# Altium schematic symbol library WE-TI.SchLib: 140 symbols (part 3 of 3)
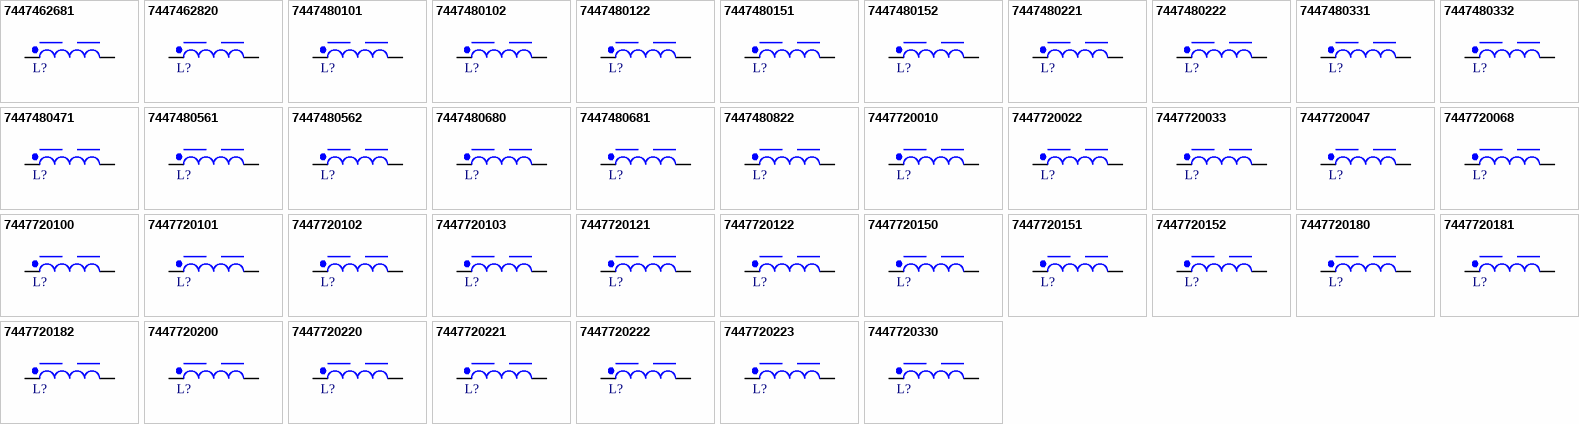
[diagram p5: symbols 7447462681 to 7447720330]

## 7447720221
designator L?, comment 220uH, 1A  (value not drawn)
WE-TI Radial Leaded Wire Wound Inductor, size 8095, 220uH, 1A, 0.45Ohm; Manufacturer Part Number: 7447720221; Manufacturer: Wurth Elektronik; Case/Size Code: 8095; Self Resonant Frequency: 3.8MHz; Category: Power Inductors; Match Code: WE-TI; ComponentLink1Description: Website Link; ComponentLink1URL: https://www.we-online.com/redexpert/article/7447720221?ad; ComponentLink2Description: Datasheet Link; ComponentLink2URL: https://www.we-online.com/redexpert/spec/7447720221?ad; Mount: Through Hole; Operating Temperature Max: 125°C; Operating Temperature Min: -40°C; Packaging: Tray; Height: 9.5mm; Diameter: 7.8mm; DC Resistance Max: 0.45Ohm; Inductance: 220uH; Rated Current: 1A; Saturation Current @ 10%: 1A
footprint WE-TI_8095
simulation model 8095_7447720221_220u
pins: 1, 2

## 7447720222
designator L?, comment 2200uH, 0.29A  (value not drawn)
WE-TI Radial Leaded Wire Wound Inductor, size 8095, 2200uH, 0.29A, 4.73Ohm; Manufacturer Part Number: 7447720222; Manufacturer: Wurth Elektronik; Case/Size Code: 8095; Saturation Current @ 10%: 0.35A; Self Resonant Frequency: 1.1MHz; Category: Power Inductors; Match Code: WE-TI; ComponentLink1Description: Website Link; ComponentLink1URL: https://www.we-online.com/redexpert/article/7447720222?ad; ComponentLink2Description: Datasheet Link; ComponentLink2URL: https://www.we-online.com/redexpert/spec/7447720222?ad; Mount: Through Hole; Operating Temperature Max: 125°C; Operating Temperature Min: -40°C; Packaging: Tray; Height: 9.5mm; Diameter: 7.8mm; DC Resistance Max: 4.73Ohm; Inductance: 2200uH; Rated Current: 0.29A
footprint WE-TI_8095
simulation model 8095_7447720222_2200u
pins: 1, 2

## 7447720223
designator L?, comment 22000uH, 0.09A  (value not drawn)
WE-TI Radial Leaded Wire Wound Inductor, size 8095, 22000uH, 0.09A, 55Ohm; Manufacturer Part Number: 7447720223; Manufacturer: Wurth Elektronik; Case/Size Code: 8095; Saturation Current @ 10%: 0.11A; Self Resonant Frequency: 0.38MHz; Category: Power Inductors; Match Code: WE-TI; ComponentLink1Description: Website Link; ComponentLink1URL: https://www.we-online.com/redexpert/article/7447720223?ad; ComponentLink2Description: Datasheet Link; ComponentLink2URL: https://www.we-online.com/redexpert/spec/7447720223?ad; Mount: Through Hole; Operating Temperature Max: 125°C; Operating Temperature Min: -40°C; Packaging: Tray; Height: 9.5mm; Diameter: 7.8mm; DC Resistance Max: 55Ohm; Inductance: 22000uH; Rated Current: 0.09A
footprint WE-TI_8095
simulation model 8095_7447720223_22000u
pins: 1, 2

## 7447720330
designator L?, comment 33uH, 2.5A  (value not drawn)
WE-TI Radial Leaded Wire Wound Inductor, size 8095, 33uH, 2.5A, 0.066Ohm; Manufacturer Part Number: 7447720330; Manufacturer: Wurth Elektronik; Case/Size Code: 8095; Saturation Current @ 10%: 2.7A; Self Resonant Frequency: 11MHz; Category: Power Inductors; Match Code: WE-TI; ComponentLink1Description: Website Link; ComponentLink1URL: https://www.we-online.com/redexpert/article/7447720330?ad; ComponentLink2Description: Datasheet Link; ComponentLink2URL: https://www.we-online.com/redexpert/spec/7447720330?ad; Mount: Through Hole; Operating Temperature Max: 125°C; Operating Temperature Min: -40°C; Packaging: Tray; Height: 9.5mm; Diameter: 7.8mm; DC Resistance Max: 0.066Ohm; Inductance: 33uH; Rated Current: 2.5A
footprint WE-TI_8095
simulation model 8095_7447720330_33u
pins: 1, 2

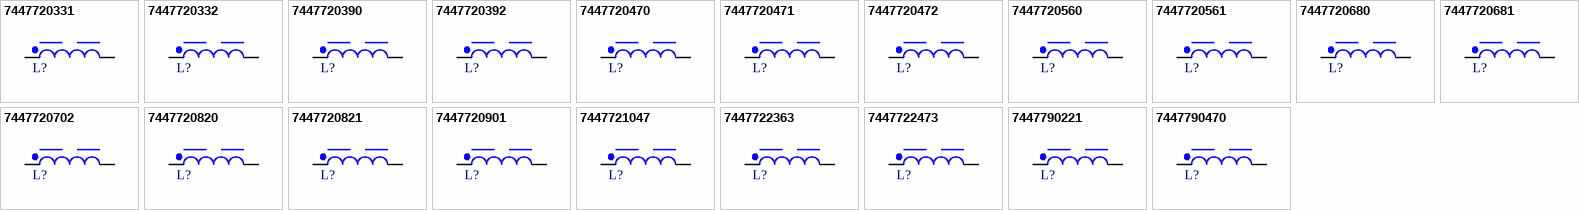
[diagram p3: symbols 7447720331 to 7447790470]

## 7447720331
designator L?, comment 330uH, 0.82A  (value not drawn)
WE-TI Radial Leaded Wire Wound Inductor, size 8095, 330uH, 0.82A, 0.7Ohm; Manufacturer Part Number: 7447720331; Manufacturer: Wurth Elektronik; Case/Size Code: 8095; Saturation Current @ 10%: 0.88A; Self Resonant Frequency: 3.1MHz; Category: Power Inductors; Match Code: WE-TI; ComponentLink1Description: Website Link; ComponentLink1URL: https://www.we-online.com/redexpert/article/7447720331?ad; ComponentLink2Description: Datasheet Link; ComponentLink2URL: https://www.we-online.com/redexpert/spec/7447720331?ad; Mount: Through Hole; Operating Temperature Max: 125°C; Operating Temperature Min: -40°C; Packaging: Tray; Height: 9.5mm; Diameter: 7.8mm; DC Resistance Max: 0.7Ohm; Inductance: 330uH; Rated Current: 0.82A
footprint WE-TI_8095
simulation model 8095_7447720331_330u
pins: 1, 2

## 7447720332
designator L?, comment 3300uH, 0.24A  (value not drawn)
WE-TI Radial Leaded Wire Wound Inductor, size 8095, 3300uH, 0.24A, 6.7Ohm; Manufacturer Part Number: 7447720332; Manufacturer: Wurth Elektronik; Case/Size Code: 8095; Saturation Current @ 10%: 0.29A; Self Resonant Frequency: 0.98MHz; Category: Power Inductors; Match Code: WE-TI; ComponentLink1Description: Website Link; ComponentLink1URL: https://www.we-online.com/redexpert/article/7447720332?ad; ComponentLink2Description: Datasheet Link; ComponentLink2URL: https://www.we-online.com/redexpert/spec/7447720332?ad; Mount: Through Hole; Operating Temperature Max: 125°C; Operating Temperature Min: -40°C; Packaging: Tray; Height: 9.5mm; Diameter: 7.8mm; DC Resistance Max: 6.7Ohm; Inductance: 3300uH; Rated Current: 0.24A
footprint WE-TI_8095
simulation model 8095_7447720332_3300u
pins: 1, 2

## 7447720390
designator L?, comment 39uH, 2.2A  (value not drawn)
WE-TI Radial Leaded Wire Wound Inductor, size 8095, 39uH, 2.2A, 0.1Ohm; Manufacturer Part Number: 7447720390; Manufacturer: Wurth Elektronik; Case/Size Code: 8095; Saturation Current @ 10%: 2.5A; Self Resonant Frequency: 10MHz; Category: Power Inductors; Match Code: WE-TI; ComponentLink1Description: Website Link; ComponentLink1URL: https://www.we-online.com/redexpert/article/7447720390?ad; ComponentLink2Description: Datasheet Link; ComponentLink2URL: https://www.we-online.com/redexpert/spec/7447720390?ad; Mount: Through Hole; Operating Temperature Max: 125°C; Operating Temperature Min: -40°C; Packaging: Tray; Height: 9.5mm; Diameter: 7.8mm; DC Resistance Max: 0.1Ohm; Inductance: 39uH; Rated Current: 2.2A
footprint WE-TI_8095
simulation model 8095_7447720390_39u
pins: 1, 2

## 7447720392
designator L?, comment 3900uH, 0.22A  (value not drawn)
WE-TI Radial Leaded Wire Wound Inductor, size 8095, 3900uH, 0.22A, 8.05Ohm; Manufacturer Part Number: 7447720392; Manufacturer: Wurth Elektronik; Case/Size Code: 8095; Saturation Current @ 10%: 0.27A; Self Resonant Frequency: 0.88MHz; Category: Power Inductors; Match Code: WE-TI; ComponentLink1Description: Website Link; ComponentLink1URL: https://www.we-online.com/redexpert/article/7447720392?ad; ComponentLink2Description: Datasheet Link; ComponentLink2URL: https://www.we-online.com/redexpert/spec/7447720392?ad; Mount: Through Hole; Operating Temperature Max: 125°C; Operating Temperature Min: -40°C; Packaging: Tray; Height: 9.5mm; Diameter: 7.8mm; DC Resistance Max: 8.05Ohm; Inductance: 3900uH; Rated Current: 0.22A
footprint WE-TI_8095
simulation model 8095_7447720392_3900u
pins: 1, 2

## 7447720470
designator L?, comment 47uH, 2A  (value not drawn)
WE-TI Radial Leaded Wire Wound Inductor, size 8095, 47uH, 2A, 0.12Ohm; Manufacturer Part Number: 7447720470; Manufacturer: Wurth Elektronik; Case/Size Code: 8095; Saturation Current @ 10%: 2.3A; Self Resonant Frequency: 9.1MHz; Category: Power Inductors; Match Code: WE-TI; ComponentLink1Description: Website Link; ComponentLink1URL: https://www.we-online.com/redexpert/article/7447720470?ad; ComponentLink2Description: Datasheet Link; ComponentLink2URL: https://www.we-online.com/redexpert/spec/7447720470?ad; Mount: Through Hole; Operating Temperature Max: 125°C; Operating Temperature Min: -40°C; Packaging: Tray; Height: 9.5mm; Diameter: 7.8mm; DC Resistance Max: 0.12Ohm; Inductance: 47uH; Rated Current: 2A
footprint WE-TI_8095
simulation model 8095_7447720470_47u
pins: 1, 2

## 7447720471
designator L?, comment 470uH, 0.66A  (value not drawn)
WE-TI Radial Leaded Wire Wound Inductor, size 8095, 470uH, 0.66A, 0.97Ohm; Manufacturer Part Number: 7447720471; Manufacturer: Wurth Elektronik; Case/Size Code: 8095; Saturation Current @ 10%: 0.73A; Self Resonant Frequency: 2.4MHz; Category: Power Inductors; Match Code: WE-TI; ComponentLink1Description: Website Link; ComponentLink1URL: https://www.we-online.com/redexpert/article/7447720471?ad; ComponentLink2Description: Datasheet Link; ComponentLink2URL: https://www.we-online.com/redexpert/spec/7447720471?ad; Mount: Through Hole; Operating Temperature Max: 125°C; Operating Temperature Min: -40°C; Packaging: Tray; Height: 9.5mm; Diameter: 7.8mm; DC Resistance Max: 0.97Ohm; Inductance: 470uH; Rated Current: 0.66A
footprint WE-TI_8095
simulation model 8095_7447720471_470u
pins: 1, 2

## 7447720472
designator L?, comment 4700uH, 0.21A  (value not drawn)
WE-TI Radial Leaded Wire Wound Inductor, size 8095, 4700uH, 0.21A, 9.5Ohm; Manufacturer Part Number: 7447720472; Manufacturer: Wurth Elektronik; Case/Size Code: 8095; Saturation Current @ 10%: 0.24A; Self Resonant Frequency: 0.83MHz; Category: Power Inductors; Match Code: WE-TI; ComponentLink1Description: Website Link; ComponentLink1URL: https://www.we-online.com/redexpert/article/7447720472?ad; ComponentLink2Description: Datasheet Link; ComponentLink2URL: https://www.we-online.com/redexpert/spec/7447720472?ad; Mount: Through Hole; Operating Temperature Max: 125°C; Operating Temperature Min: -40°C; Packaging: Tray; Height: 9.5mm; Diameter: 7.8mm; DC Resistance Max: 9.5Ohm; Inductance: 4700uH; Rated Current: 0.21A
footprint WE-TI_8095
simulation model 8095_7447720472_4700u
pins: 1, 2

## 7447720560
designator L?, comment 56uH, 1.9A  (value not drawn)
WE-TI Radial Leaded Wire Wound Inductor, size 8095, 56uH, 1.9A, 0.13Ohm; Manufacturer Part Number: 7447720560; Manufacturer: Wurth Elektronik; Case/Size Code: 8095; Saturation Current @ 10%: 2.1A; Self Resonant Frequency: 8.2MHz; Category: Power Inductors; Match Code: WE-TI; ComponentLink1Description: Website Link; ComponentLink1URL: https://www.we-online.com/redexpert/article/7447720560?ad; ComponentLink2Description: Datasheet Link; ComponentLink2URL: https://www.we-online.com/redexpert/spec/7447720560?ad; Mount: Through Hole; Operating Temperature Max: 125°C; Operating Temperature Min: -40°C; Packaging: Tray; Height: 9.5mm; Diameter: 7.8mm; DC Resistance Max: 0.13Ohm; Inductance: 56uH; Rated Current: 1.9A
footprint WE-TI_8095
simulation model 8095_7447720560_56u
pins: 1, 2

## 7447720561
designator L?, comment 560uH, 0.61A  (value not drawn)
WE-TI Radial Leaded Wire Wound Inductor, size 8095, 560uH, 0.61A, 1.22Ohm; Manufacturer Part Number: 7447720561; Manufacturer: Wurth Elektronik; Case/Size Code: 8095; Saturation Current @ 10%: 0.7A; Self Resonant Frequency: 2.3MHz; Category: Power Inductors; Match Code: WE-TI; ComponentLink1Description: Website Link; ComponentLink1URL: https://www.we-online.com/redexpert/article/7447720561?ad; ComponentLink2Description: Datasheet Link; ComponentLink2URL: https://www.we-online.com/redexpert/spec/7447720561?ad; Mount: Through Hole; Operating Temperature Max: 125°C; Operating Temperature Min: -40°C; Packaging: Tray; Height: 9.5mm; Diameter: 7.8mm; DC Resistance Max: 1.22Ohm; Inductance: 560uH; Rated Current: 0.61A
footprint WE-TI_8095
simulation model 8095_7447720561_560u
pins: 1, 2

## 7447720680
designator L?, comment 68uH, 1.8A  (value not drawn)
WE-TI Radial Leaded Wire Wound Inductor, size 8095, 68uH, 1.8A, 0.16Ohm; Manufacturer Part Number: 7447720680; Manufacturer: Wurth Elektronik; Case/Size Code: 8095; Saturation Current @ 10%: 1.9A; Self Resonant Frequency: 6.7MHz; Category: Power Inductors; Match Code: WE-TI; ComponentLink1Description: Website Link; ComponentLink1URL: https://www.we-online.com/redexpert/article/7447720680?ad; ComponentLink2Description: Datasheet Link; ComponentLink2URL: https://www.we-online.com/redexpert/spec/7447720680?ad; Mount: Through Hole; Operating Temperature Max: 125°C; Operating Temperature Min: -40°C; Packaging: Tray; Height: 9.5mm; Diameter: 7.8mm; DC Resistance Max: 0.16Ohm; Inductance: 68uH; Rated Current: 1.8A
footprint WE-TI_8095
simulation model 8095_7447720680_68u
pins: 1, 2

## 7447720681
designator L?, comment 680uH, 0.52A  (value not drawn)
WE-TI Radial Leaded Wire Wound Inductor, size 8095, 680uH, 0.52A, 1.37Ohm; Manufacturer Part Number: 7447720681; Manufacturer: Wurth Elektronik; Case/Size Code: 8095; Saturation Current @ 10%: 0.61A; Self Resonant Frequency: 2.1MHz; Category: Power Inductors; Match Code: WE-TI; ComponentLink1Description: Website Link; ComponentLink1URL: https://www.we-online.com/redexpert/article/7447720681?ad; ComponentLink2Description: Datasheet Link; ComponentLink2URL: https://www.we-online.com/redexpert/spec/7447720681?ad; Mount: Through Hole; Operating Temperature Max: 125°C; Operating Temperature Min: -40°C; Packaging: Tray; Height: 9.5mm; Diameter: 7.8mm; DC Resistance Max: 1.37Ohm; Inductance: 680uH; Rated Current: 0.52A
footprint WE-TI_8095
simulation model 8095_7447720681_680u
pins: 1, 2

## 7447720702
designator L?, comment 7000uH, 0.17A  (value not drawn)
WE-TI Radial Leaded Wire Wound Inductor, size 8095, 7000uH, 0.17A, 16Ohm; Manufacturer Part Number: 7447720702; Manufacturer: Wurth Elektronik; Case/Size Code: 8095; Saturation Current @ 10%: 0.18A; Self Resonant Frequency: 0.71MHz; Category: Power Inductors; Match Code: WE-TI; ComponentLink1Description: Website Link; ComponentLink1URL: https://www.we-online.com/redexpert/article/7447720702?ad; ComponentLink2Description: Datasheet Link; ComponentLink2URL: https://www.we-online.com/redexpert/spec/7447720702?ad; Mount: Through Hole; Operating Temperature Max: 125°C; Operating Temperature Min: -40°C; Packaging: Tray; Height: 9.5mm; Diameter: 7.8mm; DC Resistance Max: 16Ohm; Inductance: 7000uH; Rated Current: 0.17A
footprint WE-TI_8095
simulation model 8095_7447720702_7000u
pins: 1, 2

## 7447720820
designator L?, comment 82uH, 1.6A  (value not drawn)
WE-TI Radial Leaded Wire Wound Inductor, size 8095, 82uH, 1.6A, 0.19Ohm; Manufacturer Part Number: 7447720820; Manufacturer: Wurth Elektronik; Case/Size Code: 8095; Saturation Current @ 10%: 1.7A; Self Resonant Frequency: 6.2MHz; Category: Power Inductors; Match Code: WE-TI; ComponentLink1Description: Website Link; ComponentLink1URL: https://www.we-online.com/redexpert/article/7447720820?ad; ComponentLink2Description: Datasheet Link; ComponentLink2URL: https://www.we-online.com/redexpert/spec/7447720820?ad; Mount: Through Hole; Operating Temperature Max: 125°C; Operating Temperature Min: -40°C; Packaging: Tray; Height: 9.5mm; Diameter: 7.8mm; DC Resistance Max: 0.19Ohm; Inductance: 82uH; Rated Current: 1.6A
footprint WE-TI_8095
simulation model 8095_7447720820_82u
pins: 1, 2

## 7447720821
designator L?, comment 820uH, 0.51A  (value not drawn)
WE-TI Radial Leaded Wire Wound Inductor, size 8095, 820uH, 0.51A, 1.7Ohm; Manufacturer Part Number: 7447720821; Manufacturer: Wurth Elektronik; Case/Size Code: 8095; Saturation Current @ 10%: 0.55A; Self Resonant Frequency: 2MHz; Category: Power Inductors; Match Code: WE-TI; ComponentLink1Description: Website Link; ComponentLink1URL: https://www.we-online.com/redexpert/article/7447720821?ad; ComponentLink2Description: Datasheet Link; ComponentLink2URL: https://www.we-online.com/redexpert/spec/7447720821?ad; Mount: Through Hole; Operating Temperature Max: 125°C; Operating Temperature Min: -40°C; Packaging: Tray; Height: 9.5mm; Diameter: 7.8mm; DC Resistance Max: 1.7Ohm; Inductance: 820uH; Rated Current: 0.51A
footprint WE-TI_8095
simulation model 8095_7447720821_820u
pins: 1, 2

## 7447720901
designator L?, comment 900uH, 0.5A  (value not drawn)
WE-TI Radial Leaded Wire Wound Inductor, size 8095, 900uH, 0.5A, 2.02Ohm; Manufacturer Part Number: 7447720901; Manufacturer: Wurth Elektronik; Case/Size Code: 8095; Saturation Current @ 10%: 0.52A; Self Resonant Frequency: 1.8MHz; Category: Power Inductors; Match Code: WE-TI; ComponentLink1Description: Website Link; ComponentLink1URL: https://www.we-online.com/redexpert/article/7447720901?ad; ComponentLink2Description: Datasheet Link; ComponentLink2URL: https://www.we-online.com/redexpert/spec/7447720901?ad; Mount: Through Hole; Operating Temperature Max: 125°C; Operating Temperature Min: -40°C; Packaging: Tray; Height: 9.5mm; Diameter: 7.8mm; DC Resistance Max: 2.02Ohm; Inductance: 900uH; Rated Current: 0.5A
footprint WE-TI_8095
simulation model 8095_7447720901_900u
pins: 1, 2

## 7447721047
designator L?, comment 4700uH, 0.2A  (value not drawn)
WE-TI Radial Leaded Wire Wound Inductor, size 8075, 4700uH, 0.2A, 15Ohm; Manufacturer Part Number: 7447721047; Manufacturer: Wurth Elektronik; Case/Size Code: 8075; Saturation Current @ 10%: 0.21A; Self Resonant Frequency: 1MHz; Category: Power Inductors; Match Code: WE-TI; ComponentLink1Description: Website Link; ComponentLink1URL: https://www.we-online.com/redexpert/article/7447721047?ad; ComponentLink2Description: Datasheet Link; ComponentLink2URL: https://www.we-online.com/redexpert/spec/7447721047?ad; Mount: Through Hole; Operating Temperature Max: 125°C; Operating Temperature Min: -40°C; Packaging: Tray; Height: 8mm; Diameter: 9.5mm; DC Resistance Max: 15Ohm; Inductance: 4700uH; Rated Current: 0.2A
footprint WE-TI_8075
simulation model 8075_7447721047_4700u
pins: 1, 2

## 7447722363
designator L?, comment 36000uH, 0.07A  (value not drawn)
WE-TI Radial Leaded Wire Wound Inductor, size 8095, 36000uH, 0.07A, 94Ohm; Manufacturer Part Number: 7447722363; Manufacturer: Wurth Elektronik; Case/Size Code: 8095; Saturation Current @ 10%: 0.08A; Self Resonant Frequency: 0.25MHz; Category: Power Inductors; Match Code: WE-TI; ComponentLink1Description: Website Link; ComponentLink1URL: https://www.we-online.com/redexpert/article/7447722363?ad; ComponentLink2Description: Datasheet Link; ComponentLink2URL: https://www.we-online.com/redexpert/spec/7447722363?ad; Mount: Through Hole; Operating Temperature Max: 125°C; Operating Temperature Min: -40°C; Packaging: Tray; Height: 9.5mm; Diameter: 7.8mm; DC Resistance Max: 94Ohm; Inductance: 36000uH; Rated Current: 0.07A
footprint WE-TI_8095
simulation model 8095_7447722363_36000u
pins: 1, 2

## 7447722473
designator L?, comment 47000uH, 0.06A  (value not drawn)
WE-TI Radial Leaded Wire Wound Inductor, size 8095, 47000uH, 0.06A, 112Ohm; Manufacturer Part Number: 7447722473; Manufacturer: Wurth Elektronik; Case/Size Code: 8095; Saturation Current @ 10%: 0.07A; Self Resonant Frequency: 0.22MHz; Category: Power Inductors; Match Code: WE-TI; ComponentLink1Description: Website Link; ComponentLink1URL: https://www.we-online.com/redexpert/article/7447722473?ad; ComponentLink2Description: Datasheet Link; ComponentLink2URL: https://www.we-online.com/redexpert/spec/7447722473?ad; Mount: Through Hole; Operating Temperature Max: 125°C; Operating Temperature Min: -40°C; Packaging: Tray; Height: 9.5mm; Diameter: 7.8mm; DC Resistance Max: 112Ohm; Inductance: 47000uH; Rated Current: 0.06A
footprint WE-TI_8095
simulation model 8095_7447722473_47000u
pins: 1, 2

## 7447790221
designator L?, comment 220uH, 0.6A  (value not drawn)
WE-TI Radial Leaded Wire Wound Inductor, size 6065, 220uH, 0.6A, 0.8Ohm; Manufacturer Part Number: 7447790221; Manufacturer: Wurth Elektronik; Case/Size Code: 6065; Saturation Current @ 10%: 0.5A; Self Resonant Frequency: 5.5MHz; Category: Power Inductors; Match Code: WE-TI; ComponentLink1Description: Website Link; ComponentLink1URL: https://www.we-online.com/redexpert/article/7447790221?ad; ComponentLink2Description: Datasheet Link; ComponentLink2URL: https://www.we-online.com/redexpert/spec/7447790221?ad; Mount: Through Hole; Operating Temperature Max: 125°C; Operating Temperature Min: -40°C; Packaging: Tray; Height: 6.5mm; Diameter: 6mm; DC Resistance Max: 0.8Ohm; Inductance: 220uH; Rated Current: 0.6A
footprint WE-TI_6065
simulation model 6065_7447790221_220u
pins: 1, 2

## 7447790470
designator L?, comment 47uH, 1.45A  (value not drawn)
WE-TI Radial Leaded Wire Wound Inductor, size 6065, 47uH, 1.45A, 0.16Ohm; Manufacturer Part Number: 7447790470; Manufacturer: Wurth Elektronik; Case/Size Code: 6065; Saturation Current @ 10%: 1.1A; Self Resonant Frequency: 10.2MHz; Category: Power Inductors; Match Code: WE-TI; ComponentLink1Description: Website Link; ComponentLink1URL: https://www.we-online.com/redexpert/article/7447790470?ad; ComponentLink2Description: Datasheet Link; ComponentLink2URL: https://www.we-online.com/redexpert/spec/7447790470?ad; Mount: Through Hole; Operating Temperature Max: 125°C; Operating Temperature Min: -40°C; Packaging: Tray; Height: 6.5mm; Diameter: 6mm; DC Resistance Max: 0.16Ohm; Inductance: 47uH; Rated Current: 1.45A
footprint WE-TI_6065
simulation model 6065_7447790470_47u
pins: 1, 2